# EAGLE library part UCC27524DGN (library Labops_Lib_AH)
Gate Driver, Dual Channel, Noninverting, VSSOP-8 exposed pad, Texas Instruments
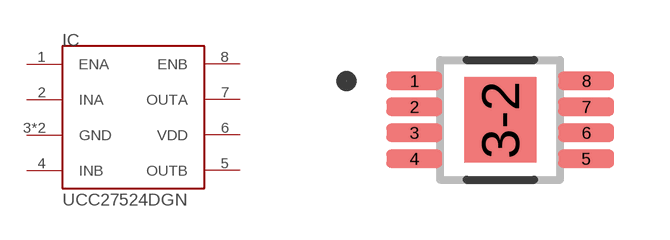
[diagram p66: symbol with the pads of VSSOP-8; footprint VSSOP-8]

Designator prefix IC

## UCC27524DGNVSS (DESCRIPTION: Low-Side Gate Driver IC 5A, 4.5-18VNon-Inverting 8-HVSSOP; LIB_STATUS: Prottype; MFN: UCC27524DGN; MFR: Texas Instruments; OUR_STOCK: 12; PART_VALUE: UCC27524DGN; PRICE-1: 1.43; SUPPLIER-1: Digikey)  [VSSOP-8]
1  ENA
2  INA
3  GND
3-2  GND
4  INB
5  OUTB
6  VDD
7  OUTA
8  ENB

## Footprint VSSOP-8 (pad centres in mm)
smd 1.4 x 0.45: 1 -2.151,0.975; 2 -2.151,0.325; 3 -2.151,-0.325; 4 -2.151,-0.975; 5 2.151,-0.975; 6 2.151,-0.325; 7 2.151,0.325; 8 2.151,0.975
smd 1.8 x 2.15: 3-2 0,0